# Altium footprint library GAGHL_ALTIUM_LIBRARY_Pcb.PcbLib: 9 footprints
Each footprint in its own frame and in the unit in brackets; x right, y up, seen from the top. Pads: shape width x height; smd on the part's side, far side on the other; paste and mask are expansions set on the pad; w line width, h text height; cw(c..) or ccw(c..) is an arc to the next point about the centre after c.
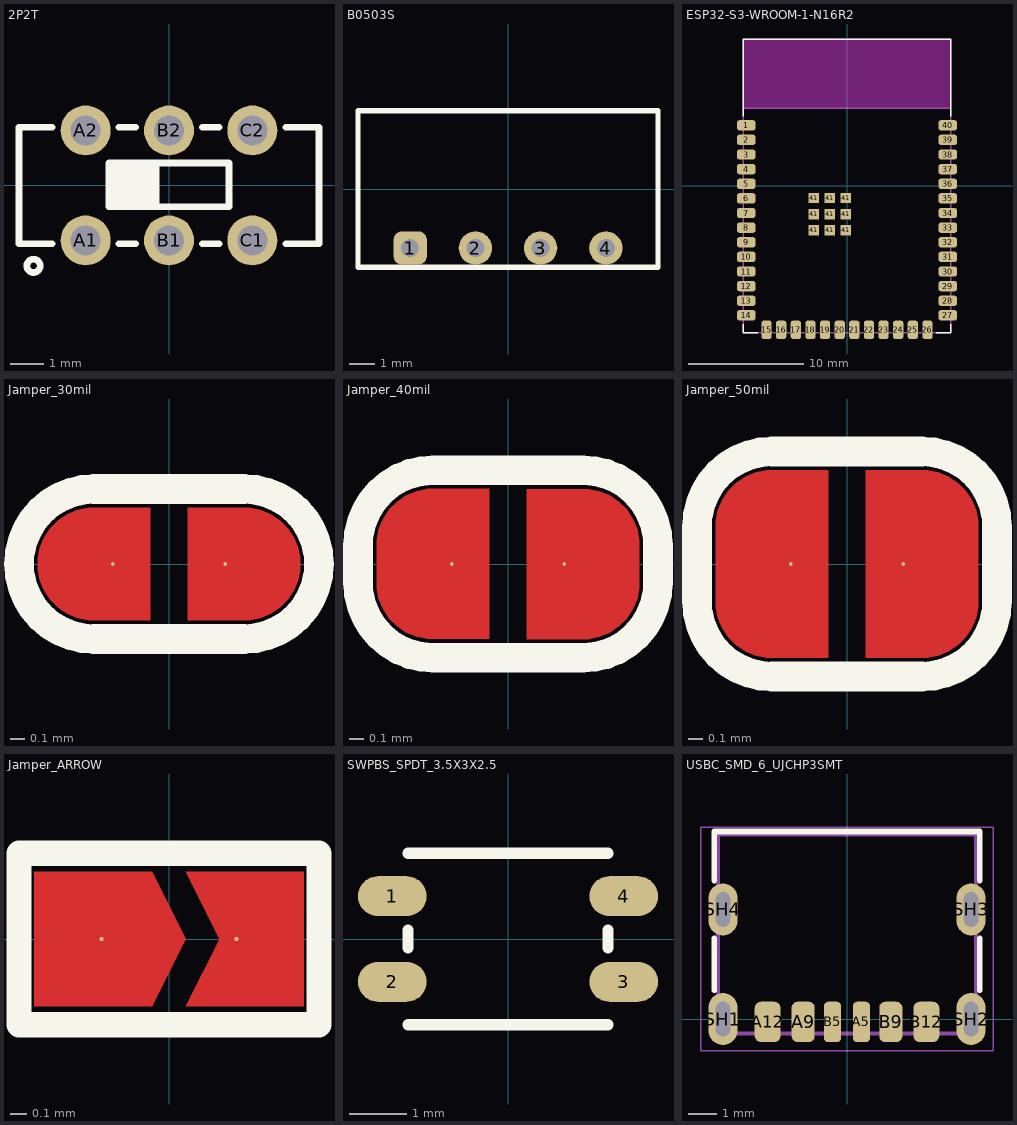
[diagram p0: the footprints below, top view; thin cyan lines are the x and y axes]

## 2P2T [mm]
pads (6):
  round 1.5 hole 0.9: A1(-2.5,-1.65) A2(-2.5,1.65) B1(0,-1.65) B2(0,1.65) C1(2.5,-1.65) C2(2.5,1.65)
Top Overlay:
  circle w0.2: c-4.064,-2.413 r0.2
  rectangle: -1.8,-0.635 -0.381,0.635
  lines w0.2: -3.5,-1.75 -4.5,-1.75 -4.5,1.75 -3.5,1.75 ; -1.5,-1.75 -1,-1.75 ; -1.5,1.75 -1,1.75 ; -0.381,-0.635 -0.381,0.635 ; 1,-1.75 1.5,-1.75 ; 1,1.75 1.5,1.75 ; 3.5,-1.75 4.5,-1.75 4.5,1.75 3.5,1.75 ; -1.8,-0.635 1.8,-0.635 1.8,0.673 -1.8,0.673 -1.8,-0.635
3D body: height 0.3, standoff 0, extent 3.2,0.75 3.8,1.25
3D body: height 0.3, standoff 0, extent 3.2,-1.25 3.8,-0.75
3D body: height 0.3, standoff 0, extent -3.8,-1.25 -3.2,-0.75
3D body: height 0.3, standoff 0, extent -3.8,0.75 -3.2,1.25
3D body: height 3.2, standoff 0.3, extent -4.5,-1.75 4.5,1.75
3D body: height 3.21, standoff 3.2, extent -4.5,-1.75 4.5,1.75
3D body: height 5, standoff 3.2, extent -1.7,-0.7 -0.28,0.7
3D body: height 3.22, standoff 3.21, extent -1.9,-0.9 1.9,0.9
3D body: height 0.3, standoff -3, extent 2.2,1.5 2.8,1.8
3D body: height 0.3, standoff -3, extent -0.3,1.5 0.3,1.8
3D body: height 0.3, standoff -3, extent -2.8,1.5 -2.2,1.8
3D body: height 0.3, standoff -3, extent -2.8,-1.8 -2.2,-1.5
3D body: height 0.3, standoff -3, extent -0.3,-1.8 0.3,-1.5
3D body: height 0.3, standoff -3, extent 2.2,-1.8 2.8,-1.5

## B0503S [mm]
pads (4):
  rrect50% 1.3x1.3 hole 0.7: 1(-3.81,-2.3)
  round 1.3 hole 0.7: 2(-1.27,-2.3) 3(1.27,-2.3) 4(3.81,-2.3)
Top Overlay:
  lines w0.2: -5.842,-3.048 5.842,-3.048 5.842,3.048 -5.842,3.048 -5.842,-3.048
3D body: height 0.5, standoff 0, extent 5.35,-3.1 5.85,3.1
3D body: height 0.5, standoff 0, extent -5.85,-3.1 -5.35,3.1
3D body: height 0.5, standoff -4.5, extent 3.56,-2.45 4.06,-2.15
3D body: height 0.5, standoff -4.5, extent 1.02,-2.45 1.52,-2.15
3D body: height 0.5, standoff -4.5, extent -1.52,-2.45 -1.02,-2.15
3D body: height 0.5, standoff -4.5, extent -4.06,-2.45 -3.56,-2.15
3D body: height 10.5, standoff 0.5, extent -5.85,-3.1 5.85,3.1

## ESP32-S3-WROOM-1-N16R2 [mm]
height 3.25
pads (49):
  rrect50% 1.6x0.9 smd: 1(-8.75,5.26) 2(-8.75,3.99) 3(-8.75,2.72) 4(-8.75,1.45) 5(-8.75,0.18) 6(-8.75,-1.09) 7(-8.75,-2.36) 8(-8.75,-3.63) 9(-8.75,-4.9) 10(-8.75,-6.17) 11(-8.75,-7.44) 12(-8.75,-8.71) 13(-8.75,-9.98) 14(-8.75,-11.25) 27(8.75,-11.25) 28(8.75,-9.98) 29(8.75,-8.71) 30(8.75,-7.44) 31(8.75,-6.17) 32(8.75,-4.9) 33(8.75,-3.63) 34(8.75,-2.36) 35(8.75,-1.09) 36(8.75,0.18) 37(8.75,1.45) 38(8.75,2.72) 39(8.75,3.99) 40(8.75,5.26)
  rrect50% 0.9x1.6 smd: 15(-6.985,-12.5) 16(-5.715,-12.5) 17(-4.445,-12.5) 18(-3.175,-12.5) 19(-1.905,-12.5) 20(-0.635,-12.5) 21(0.635,-12.5) 22(1.905,-12.5) 23(3.175,-12.5) 24(4.445,-12.5) 25(5.715,-12.5) 26(6.985,-12.5)
  rect 0.9x0.9 smd: 41(-2.9,-3.86) 41(-2.9,-2.46) 41(-2.9,-1.06) 41(-1.5,-3.86) 41(-1.5,-2.46) 41(-1.5,-1.06) 41(-0.1,-3.86) 41(-0.1,-2.46) 41(-0.1,-1.06)
Top Overlay:
  lines w0.127: -9,-12.02 -9,-12.75 -7.755,-12.75 ; -9,6.03 -9,12.75 9,12.75 9,6.03 ; 7.755,-12.75 9,-12.75 9,-12.02
Keep-Out Layer:
  region: 9,6.75 -9,6.75 -9,12.75 9,12.75
  region: 9,6.75 -9,6.75 -9,12.75 9,12.75
Mechanical 13:
  lines w0.127: -9,6.75 -9,-12.75 9,-12.75 9,6.75 ; -9,6.75 -9,12.75 9,12.75 9,6.75 ; -9,6.75 9,6.75
  text "ANTENNA" at -4.5,9.5 h1.27
3D body "step_temp.STEP": height 3.25, standoff 0, extent -9,-12.75 9,12.75

## Jamper_30mil [mil]
pads (2):
  round 1 smd: 1(-15,0) 2(15,0)
Top Layer:
  region: 35,0 35,1.48 34.42,4.38 33.29,7.11 31.65,9.56 29.56,11.65 27.1,13.29 24.37,14.42 21.48,15 20,15 5,15 5,-15 20,-15 21.48,-15 24.37,-14.42 27.1,-13.29 29.56,-11.65 31.65,-9.56 33.29,-7.1 34.42,-4.37 35,-1.48
  region: -35,0 -35,-1.48 -34.42,-4.38 -33.29,-7.11 -31.65,-9.56 -29.56,-11.65 -27.1,-13.29 -24.37,-14.42 -21.48,-15 -20,-15 -5,-15 -5,15 -20,15 -21.48,15 -24.37,14.42 -27.1,13.29 -29.56,11.65 -31.65,9.56 -33.29,7.1 -34.42,4.37 -35,1.48
Top Overlay:
  lines w7.87: -40,0 ccw(c-20,0) -20,-20 20,-20 ccw(c20,0) 40,0 ccw(c20,0) 20,20 -20,20 ccw(c-20,0) -40,0

## Jamper_40mil [mil]
pads (2):
  round 1 smd: 1(-15,0) 2(15,0)
Top Layer:
  region: -35,5 -35,-5 -35,-6.48 -34.42,-9.37 -33.29,-12.1 -31.65,-14.56 -29.56,-16.65 -27.1,-18.29 -24.38,-19.42 -21.48,-20 -20,-20 -5,-20 -5,20 -20,20 -21.48,20 -24.37,19.43 -27.1,18.3 -29.56,16.65 -31.65,14.57 -33.29,12.11 -34.42,9.38 -35,6.48
  region: 35,-5 35,5 35,6.48 34.42,9.37 33.29,12.1 31.65,14.56 29.56,16.65 27.1,18.29 24.38,19.42 21.48,20 20,20 5,20 5,-20 20,-20 21.48,-20 24.37,-19.43 27.1,-18.3 29.56,-16.65 31.65,-14.57 33.29,-12.11 34.42,-9.38 35,-6.48
Top Overlay:
  lines w7.87: -40,-5 ccw(c-20,-5) -20,-25 20,-25 ccw(c20,-5) 40,-5 40,5 ccw(c20,5) 20,25 -20,25 ccw(c-20,5) -40,5 -40,-5

## Jamper_50mil [mil]
pads (2):
  round 1 smd: 1(-15,0) 2(15,0)
Top Layer:
  region: -35,-10 -35,10 -35,11.48 -34.42,14.37 -33.29,17.1 -31.65,19.56 -29.56,21.65 -27.11,23.29 -24.38,24.42 -21.48,25 -20,25 -5,25 -5,-25 -20,-25 -21.48,-25 -24.38,-24.42 -27.11,-23.29 -29.56,-21.65 -31.65,-19.56 -33.29,-17.11 -34.42,-14.38 -35,-11.48
  region: 35,-10 35,10 35,11.48 34.42,14.38 33.29,17.11 31.65,19.56 29.56,21.65 27.11,23.29 24.38,24.42 21.48,25 20,25 5,25 5,-25 20,-25 21.48,-25 24.38,-24.42 27.1,-23.29 29.56,-21.65 31.65,-19.56 33.29,-17.11 34.42,-14.38 35,-11.48
Top Overlay:
  lines w7.87: -40,-10 ccw(c-20,-10) -20,-30 20,-30 ccw(c20,-10) 40,-10 40,10 ccw(c20,10) 20,30 -20,30 ccw(c-20,10) -40,10 -40,-10

## Jamper_ARROW [mil]
pads (2):
  round 1 smd: 1(-15.75,0) 2(15.75,0)
Top Layer:
  region: -31.5,15.75 -31.5,-15.75 -3.94,-15.75 3.94,0 -3.94,15.75
  region: 3.94,15.75 11.81,0 3.94,-15.75 31.5,-15.75 31.5,15.75
Top Overlay:
  lines w5.91: -35,-20 -35,20 35,20 35,-20 -35,-20

## SWPBS_SPDT_3.5X3X2.5 [mm] "SWITCH, PUSHBUTTON, SMD, SPDT, 3.0x2.7mm, SKSG Series; Height 1.4 mm; 200,000 cycles; 4N force, SKSGAAE010"
height 1.4
pads (4):
  oval 1.2x0.7 smd mask+0.1: 1(-2.025,0.75) 2(-2.025,-0.75) 3(2.025,-0.75) 4(2.025,0.75)
Top Overlay:
  lines w0.2: -1.75,-1.5 1.75,-1.5 ; -1.75,-0.15 -1.75,0.15 ; -1.75,1.5 1.75,1.5 ; 1.75,-0.15 1.75,0.15
3D body: height 1.35, standoff 1.3, extent -1.75,-1.5 1.75,1.5
3D body: height 0.15, standoff 0, extent 1.75,0.5 2.3,1
3D body: height 0.15, standoff 0, extent 1.75,-1 2.3,-0.5
3D body: height 0.15, standoff 0, extent -2.3,0.5 -1.75,1
3D body: height 0.15, standoff 0, extent -2.3,-1 -1.75,-0.5
3D body: height 2.5, standoff 1.35, extent -0.85,-0.85 0.85,0.85
3D body: height 1.3, standoff 0, extent -1.75,-1.5 1.75,1.5

## USBC_SMD_6_UJCHP3SMT [mm] "CONN, USB, Type C, UJC-HP-3-SMT, popular*"
pads (10):
  rrect50% 0.6x1.4 smd mask+0.075: A5(0.5,-0.1) B5(-0.5,-0.1)
  rrect50% 0.8x1.4 smd mask+0.075: A9(-1.52,-0.1) B9(1.52,-0.1)
  rrect50% 0.9x1.4 smd mask+0.075: A12(-2.75,-0.1) B12(2.75,-0.1)
  oval 1x1.8 hole 0.5 slot 1.2 at 90 deg unplated: SH1(-4.3,0) SH2(4.3,0) SH3(4.3,3.8) SH4(-4.3,3.8)
Top Overlay:
  lines w0.2: -4.6,1 -4.6,2.8 ; -4.6,4.8 -4.6,6.5 4.6,6.5 4.6,4.8 ; 4.6,1 4.6,2.8
Mechanical 13:
  lines w0.127: -4.47,-0.5 4.47,-0.5 4.47,6.4 -4.47,6.4 -4.47,-0.5
Mechanical 15:
  lines w0.05: -5.07,-1.1 5.07,-1.1 5.07,6.65 -5.07,6.65 -5.07,-1.1
3D body "UJC-HP-3-SMT-TR.step": height 3.23, standoff -1.03, extent -4.47,-0.519 4.47,6.381